# Altium footprint library Connector_Harwin.PcbLib: 102 footprints (part 2 of 7)
Each footprint in its own frame and in the unit in brackets; x right, y up, seen from the top. Pads: shape width x height; smd on the part's side, far side on the other; paste and mask are expansions set on the pad; w line width, h text height; cw(c..) or ccw(c..) is an arc to the next point about the centre after c.
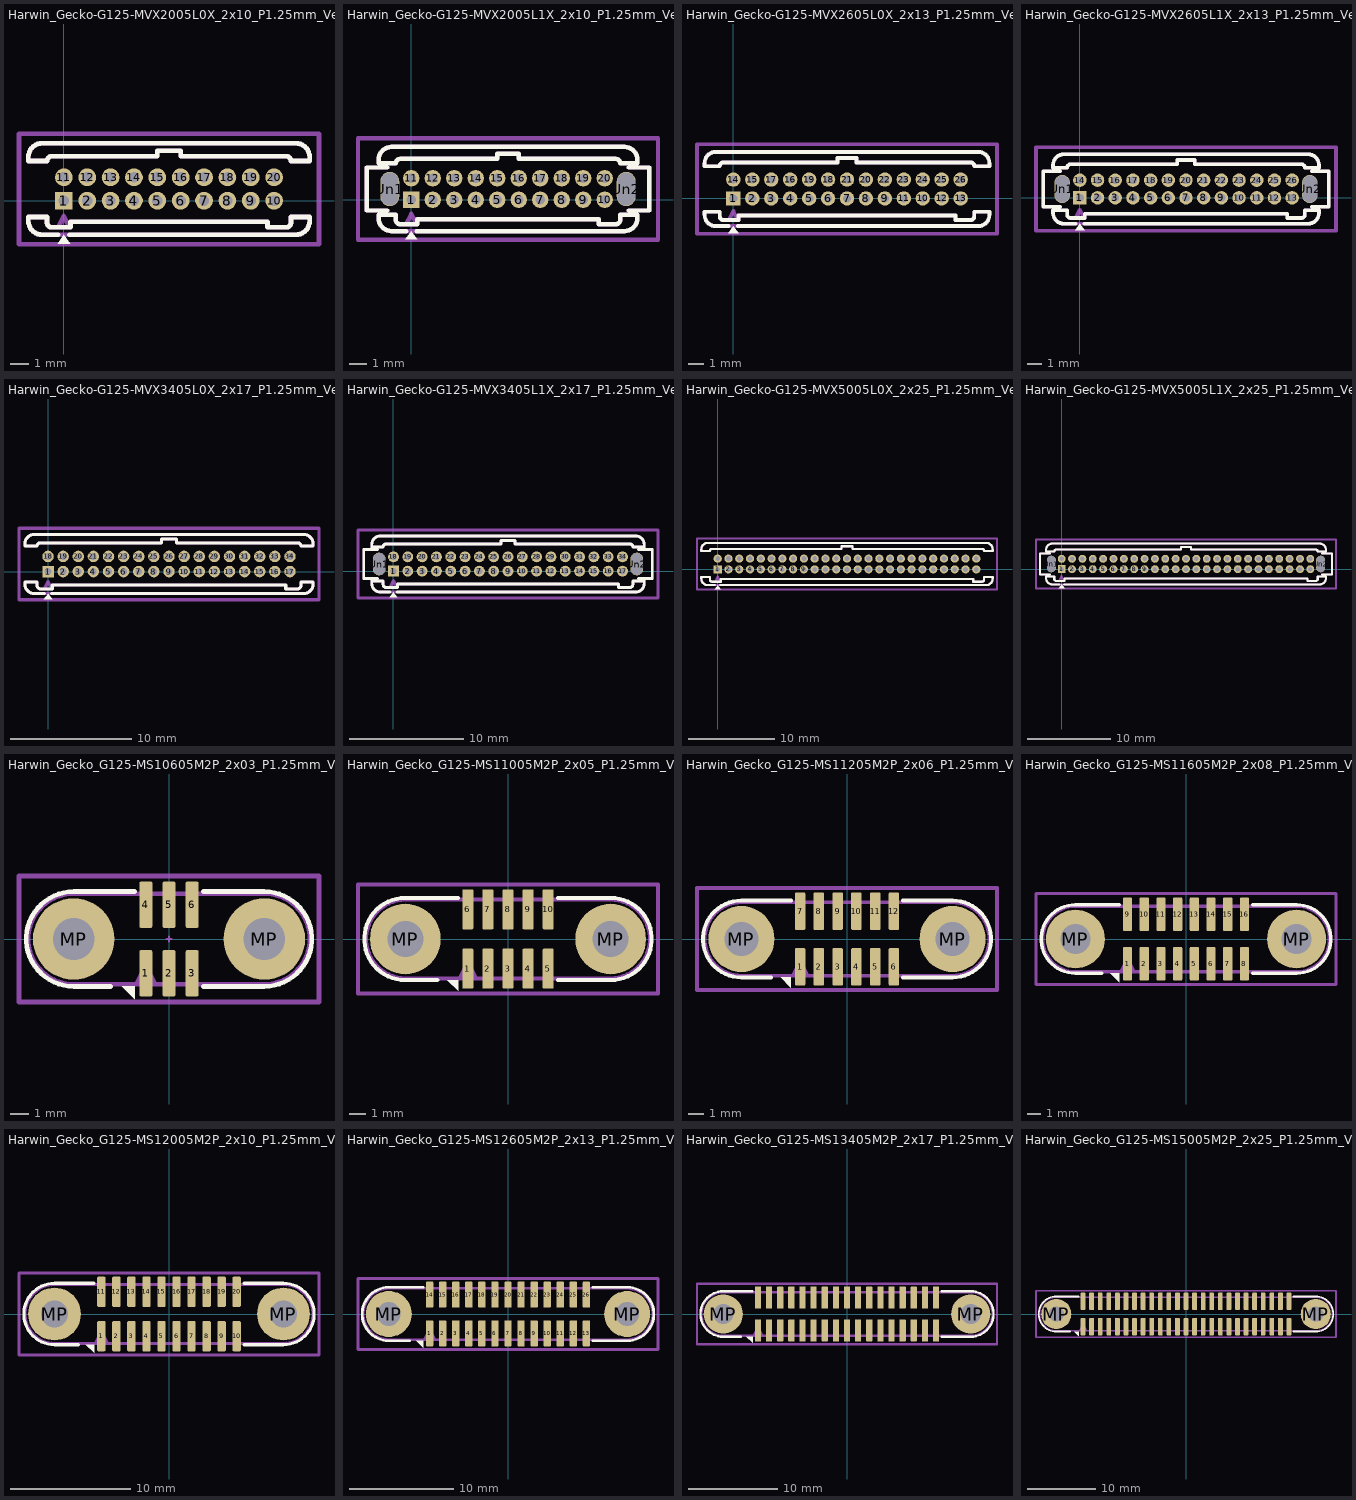
[diagram p1: the footprints below, top view; thin cyan lines are the x and y axes]

## Harwin_Gecko-G125-MVX2005L0X_2x10_P1.25mm_Vertical [mm]
pads (20):
  rect 0.95x0.95 hole 0.55: 1(0,0)
  round 0.95 hole 0.55: 2(1.25,0) 3(2.5,0) 4(3.75,0) 5(5,0) 6(6.25,0) 7(7.5,0) 8(8.75,0) 9(10,0) 10(11.25,0) 11(0,1.25) 12(1.25,1.25) 13(2.5,1.25) 14(3.75,1.25) 15(5,1.25) 16(6.25,1.25) 17(7.5,1.25) 18(8.75,1.25) 19(10,1.25) 20(11.25,1.25)
F.SilkS:
  region: 0.34,-2.3 -0.34,-2.3 0,-1.83
  lines w0.254: -0.3,-1.825 -1.15,-1.825 cw(c-1.15,-1.075) -1.9,-1.075 -1.9,-0.875 -0.9,-0.875 -0.9,-1.175 ccw(c-0.65,-1.175) -0.65,-1.425 0.35,-1.425 0.35,-1.125 10.9,-1.125 10.9,-1.425 11.9,-1.425 ccw(c11.9,-1.175) 12.15,-1.175 12.15,-0.875 13.15,-0.875 13.15,-1.075 cw(c12.4,-1.075) 12.4,-1.825 0.3,-1.825 ; -1.9,2.125 -0.9,2.125 cw(c-0.65,2.125) -0.65,2.375 5,2.375 5,2.675 6.25,2.675 6.25,2.375 11.9,2.375 cw(c11.9,2.125) 12.15,2.125 13.15,2.125 13.15,2.325 ccw(c12.4,2.325) 12.4,3.075 -1.15,3.075 ccw(c-1.15,2.325) -1.9,2.325 -1.9,2.125
Top Assembly:
  lines w0.254: -0.3,-1.425 0,-0.825 0.3,-1.425 ; -1.9,-1.075 ccw(c-1.15,-1.075) -1.15,-1.825 12.4,-1.825 ccw(c12.4,-1.075) 13.15,-1.075 13.15,-0.875 12.15,-0.875 12.15,-1.175 cw(c11.9,-1.175) 11.9,-1.425 10.9,-1.425 10.9,-1.125 0.35,-1.125 0.35,-1.425 -0.65,-1.425 cw(c-0.65,-1.175) -0.9,-1.175 -0.9,-0.875 -1.9,-0.875 -1.9,-1.075 ; -1.9,2.125 -0.9,2.125 cw(c-0.65,2.125) -0.65,2.375 5,2.375 5,2.675 6.25,2.675 6.25,2.375 11.9,2.375 cw(c11.9,2.125) 12.15,2.125 13.15,2.125 13.15,2.325 ccw(c12.4,2.325) 12.4,3.075 -1.15,3.075 ccw(c-1.15,2.325) -1.9,2.325 -1.9,2.125
  text "'.Designator'" at 1.578,-0.215 h1
Top Courtyard:
  lines w0.254: -2.4,-2.33 13.65,-2.33 13.65,3.58 -2.4,3.58 -2.4,-2.33
Top Designator:
  text ".Designator" at -1.993,0.117 h1.52

## Harwin_Gecko-G125-MVX2005L1X_2x10_P1.25mm_Vertical [mm]
pads (22):
  rect 0.95x0.95 hole 0.55: 1(0,0)
  round 0.95 hole 0.55: 2(1.25,0) 3(2.5,0) 4(3.75,0) 5(5,0) 6(6.25,0) 7(7.5,0) 8(8.75,0) 9(10,0) 10(11.25,0) 11(0,1.25) 12(1.25,1.25) 13(2.5,1.25) 14(3.75,1.25) 15(5,1.25) 16(6.25,1.25) 17(7.5,1.25) 18(8.75,1.25) 19(10,1.25) 20(11.25,1.25)
  rrect100% 1.1x2 hole 1.9 slot 1 at 0 deg: Un1(-1.25,0.625) Un2(12.5,0.625)
F.SilkS:
  region: 0.34,-2.3 -0.34,-2.3 0,-1.83
  lines w0.254: -1.4,-0.625 -2.6,-0.625 -2.6,1.875 -1.4,1.875 ; -0.3,-1.825 -1.15,-1.825 cw(c-1.15,-1.075) -1.9,-1.075 -1.9,-0.875 -0.9,-0.875 -0.9,-1.175 ccw(c-0.65,-1.175) -0.65,-1.425 0.35,-1.425 0.35,-1.125 10.9,-1.125 10.9,-1.425 11.9,-1.425 ccw(c11.9,-1.175) 12.15,-1.175 12.15,-0.875 13.15,-0.875 13.15,-1.075 cw(c12.4,-1.075) 12.4,-1.825 0.3,-1.825 ; 12.65,-0.625 13.85,-0.625 13.85,1.875 12.65,1.875 ; -1.9,2.125 -0.9,2.125 cw(c-0.65,2.125) -0.65,2.375 5,2.375 5,2.675 6.25,2.675 6.25,2.375 11.9,2.375 cw(c11.9,2.125) 12.15,2.125 13.15,2.125 13.15,2.325 ccw(c12.4,2.325) 12.4,3.075 -1.15,3.075 ccw(c-1.15,2.325) -1.9,2.325 -1.9,2.125
Top Assembly:
  lines w0.254: -1.4,-0.625 -2.6,-0.625 -2.6,1.875 -1.4,1.875 ; -0.3,-1.425 0,-0.825 0.3,-1.425 ; 12.65,-0.625 13.85,-0.625 13.85,1.875 12.65,1.875 ; -1.9,-1.075 ccw(c-1.15,-1.075) -1.15,-1.825 12.4,-1.825 ccw(c12.4,-1.075) 13.15,-1.075 13.15,-0.875 12.15,-0.875 12.15,-1.175 cw(c11.9,-1.175) 11.9,-1.425 10.9,-1.425 10.9,-1.125 0.35,-1.125 0.35,-1.425 -0.65,-1.425 cw(c-0.65,-1.175) -0.9,-1.175 -0.9,-0.875 -1.9,-0.875 -1.9,-1.075 ; -1.9,2.125 -0.9,2.125 cw(c-0.65,2.125) -0.65,2.375 5,2.375 5,2.675 6.25,2.675 6.25,2.375 11.9,2.375 cw(c11.9,2.125) 12.15,2.125 13.15,2.125 13.15,2.325 ccw(c12.4,2.325) 12.4,3.075 -1.15,3.075 ccw(c-1.15,2.325) -1.9,2.325 -1.9,2.125
  text "'.Designator'" at 1.578,-0.215 h1
Top Courtyard:
  lines w0.254: -3.1,-2.33 14.35,-2.33 14.35,3.58 -3.1,3.58 -3.1,-2.33
Top Designator:
  text ".Designator" at -1.993,0.117 h1.52

## Harwin_Gecko-G125-MVX2605L0X_2x13_P1.25mm_Vertical [mm]
pads (26):
  rect 0.95x0.95 hole 0.55: 1(0,0)
  round 0.95 hole 0.55: 2(1.25,0) 3(2.5,0) 4(3.75,0) 5(5,0) 6(6.25,0) 7(7.5,0) 8(8.75,0) 9(10,0) 10(12.5,0) 11(11.25,0) 12(13.75,0) 13(15,0) 14(0,1.25) 15(1.25,1.25) 16(3.75,1.25) 17(2.5,1.25) 18(6.25,1.25) 19(5,1.25) 20(8.75,1.25) 21(7.5,1.25) 22(10,1.25) 23(11.25,1.25) 24(12.5,1.25) 25(13.75,1.25) 26(15,1.25)
F.SilkS:
  region: 0.34,-2.3 -0.34,-2.3 0,-1.83
  lines w0.254: -0.3,-1.825 -1.15,-1.825 cw(c-1.15,-1.075) -1.9,-1.075 -1.9,-0.875 -0.9,-0.875 -0.9,-1.175 ccw(c-0.65,-1.175) -0.65,-1.425 0.35,-1.425 0.35,-1.125 14.65,-1.125 14.65,-1.425 15.65,-1.425 ccw(c15.65,-1.175) 15.9,-1.175 15.9,-0.875 16.9,-0.875 16.9,-1.075 cw(c16.15,-1.075) 16.15,-1.825 0.3,-1.825 ; -1.9,2.125 -0.9,2.125 cw(c-0.65,2.125) -0.65,2.375 6.875,2.375 6.875,2.675 8.125,2.675 8.125,2.375 15.65,2.375 cw(c15.65,2.125) 15.9,2.125 16.9,2.125 16.9,2.325 ccw(c16.15,2.325) 16.15,3.075 -1.15,3.075 ccw(c-1.15,2.325) -1.9,2.325 -1.9,2.125
Top Assembly:
  lines w0.254: -0.3,-1.425 0,-0.825 0.3,-1.425 ; -1.9,-1.075 ccw(c-1.15,-1.075) -1.15,-1.825 16.15,-1.825 ccw(c16.15,-1.075) 16.9,-1.075 16.9,-0.875 15.9,-0.875 15.9,-1.175 cw(c15.65,-1.175) 15.65,-1.425 14.65,-1.425 14.65,-1.125 0.35,-1.125 0.35,-1.425 -0.65,-1.425 cw(c-0.65,-1.175) -0.9,-1.175 -0.9,-0.875 -1.9,-0.875 -1.9,-1.075 ; -1.9,2.125 -0.9,2.125 cw(c-0.65,2.125) -0.65,2.375 6.875,2.375 6.875,2.675 8.125,2.675 8.125,2.375 15.65,2.375 cw(c15.65,2.125) 15.9,2.125 16.9,2.125 16.9,2.325 ccw(c16.15,2.325) 16.15,3.075 -1.15,3.075 ccw(c-1.15,2.325) -1.9,2.325 -1.9,2.125
  text "'.Designator'" at 3.453,-0.215 h1
Top Courtyard:
  lines w0.254: -2.4,-2.33 17.4,-2.33 17.4,3.58 -2.4,3.58 -2.4,-2.33
Top Designator:
  text ".Designator" at -0.118,0.117 h1.52

## Harwin_Gecko-G125-MVX2605L1X_2x13_P1.25mm_Vertical [mm]
pads (28):
  rect 0.95x0.95 hole 0.55: 1(0,0)
  round 0.95 hole 0.55: 2(1.25,0) 3(2.5,0) 4(3.75,0) 5(5,0) 6(6.25,0) 7(7.5,0) 8(8.75,0) 9(10,0) 10(11.25,0) 11(12.5,0) 12(13.75,0) 13(15,0) 14(0,1.25) 15(1.25,1.25) 16(2.5,1.25) 17(3.75,1.25) 18(5,1.25) 19(6.25,1.25) 20(7.5,1.25) 21(8.75,1.25) 22(10,1.25) 23(11.25,1.25) 24(12.5,1.25) 25(13.75,1.25) 26(15,1.25)
  rrect100% 1.1x2 hole 1.9 slot 1 at 0 deg: Un1(-1.25,0.625) Un2(16.25,0.625)
F.SilkS:
  region: 0.34,-2.3 -0.34,-2.3 0,-1.83
  lines w0.254: -1.4,-0.625 -2.6,-0.625 -2.6,1.875 -1.4,1.875 ; -0.3,-1.825 -1.15,-1.825 cw(c-1.15,-1.075) -1.9,-1.075 -1.9,-0.875 -0.9,-0.875 -0.9,-1.175 ccw(c-0.65,-1.175) -0.65,-1.425 0.35,-1.425 0.35,-1.125 14.65,-1.125 14.65,-1.425 15.65,-1.425 ccw(c15.65,-1.175) 15.9,-1.175 15.9,-0.875 16.9,-0.875 16.9,-1.075 cw(c16.15,-1.075) 16.15,-1.825 0.3,-1.825 ; 16.4,-0.625 17.6,-0.625 17.6,1.875 16.4,1.875 ; -1.9,2.125 -0.9,2.125 cw(c-0.65,2.125) -0.65,2.375 6.875,2.375 6.875,2.675 8.125,2.675 8.125,2.375 15.65,2.375 cw(c15.65,2.125) 15.9,2.125 16.9,2.125 16.9,2.325 ccw(c16.15,2.325) 16.15,3.075 -1.15,3.075 ccw(c-1.15,2.325) -1.9,2.325 -1.9,2.125
Top Assembly:
  lines w0.254: -1.4,-0.625 -2.6,-0.625 -2.6,1.875 -1.4,1.875 ; -0.3,-1.43 0,-0.83 0.3,-1.43 ; 16.4,-0.625 17.6,-0.625 17.6,1.875 16.4,1.875 ; -1.9,-1.075 ccw(c-1.15,-1.075) -1.15,-1.825 16.15,-1.825 ccw(c16.15,-1.075) 16.9,-1.075 16.9,-0.875 15.9,-0.875 15.9,-1.175 cw(c15.65,-1.175) 15.65,-1.425 14.65,-1.425 14.65,-1.125 0.35,-1.125 0.35,-1.425 -0.65,-1.425 cw(c-0.65,-1.175) -0.9,-1.175 -0.9,-0.875 -1.9,-0.875 -1.9,-1.075 ; -1.9,2.125 -0.9,2.125 cw(c-0.65,2.125) -0.65,2.375 6.875,2.375 6.875,2.675 8.125,2.675 8.125,2.375 15.65,2.375 cw(c15.65,2.125) 15.9,2.125 16.9,2.125 16.9,2.325 ccw(c16.15,2.325) 16.15,3.075 -1.15,3.075 ccw(c-1.15,2.325) -1.9,2.325 -1.9,2.125
  text "'.Designator'" at 3.453,-0.215 h1
Top Courtyard:
  lines w0.254: -3.1,-2.33 18.1,-2.33 18.1,3.58 -3.1,3.58 -3.1,-2.33
Top Designator:
  text ".Designator" at -0.118,0.117 h1.52

## Harwin_Gecko-G125-MVX3405L0X_2x17_P1.25mm_Vertical [mm]
pads (34):
  rect 0.95x0.95 hole 0.55: 1(0,0)
  round 0.95 hole 0.55: 2(1.25,0) 3(2.5,0) 4(3.75,0) 5(5,0) 6(6.25,0) 7(7.5,0) 8(8.75,0) 9(10,0) 10(11.25,0) 11(12.5,0) 12(13.75,0) 13(15,0) 14(16.25,0) 15(17.5,0) 16(18.75,0) 17(20,0) 18(0,1.25) 19(1.25,1.25) 20(2.5,1.25) 21(3.75,1.25) 22(5,1.25) 23(6.25,1.25) 24(7.5,1.25) 25(8.75,1.25) 26(10,1.25) 27(11.25,1.25) 28(12.5,1.25) 29(13.75,1.25) 30(15,1.25) 31(16.25,1.25) 32(17.5,1.25) 33(18.75,1.25) 34(20,1.25)
F.SilkS:
  region: 0.34,-2.3 -0.34,-2.3 0,-1.83
  lines w0.254: -0.3,-1.825 -1.15,-1.825 cw(c-1.15,-1.075) -1.9,-1.075 -1.9,-0.875 -0.9,-0.875 -0.9,-1.175 ccw(c-0.65,-1.175) -0.65,-1.425 0.35,-1.425 0.35,-1.125 19.65,-1.125 19.65,-1.425 20.65,-1.425 ccw(c20.65,-1.175) 20.9,-1.175 20.9,-0.875 21.9,-0.875 21.9,-1.075 cw(c21.15,-1.075) 21.15,-1.825 0.3,-1.825 ; -1.9,2.125 -0.9,2.125 cw(c-0.65,2.125) -0.65,2.375 9.375,2.375 9.375,2.675 10.625,2.675 10.625,2.375 20.65,2.375 cw(c20.65,2.125) 20.9,2.125 21.9,2.125 21.9,2.325 ccw(c21.15,2.325) 21.15,3.075 -1.15,3.075 ccw(c-1.15,2.325) -1.9,2.325 -1.9,2.125
Top Assembly:
  lines w0.254: -0.3,-1.425 0,-0.825 0.3,-1.425 ; -1.9,-1.075 ccw(c-1.15,-1.075) -1.15,-1.825 21.15,-1.825 ccw(c21.15,-1.075) 21.9,-1.075 21.9,-0.875 20.9,-0.875 20.9,-1.175 cw(c20.65,-1.175) 20.65,-1.425 19.65,-1.425 19.65,-1.125 0.35,-1.125 0.35,-1.425 -0.65,-1.425 cw(c-0.65,-1.175) -0.9,-1.175 -0.9,-0.875 -1.9,-0.875 -1.9,-1.075 ; -1.9,2.125 -0.9,2.125 cw(c-0.65,2.125) -0.65,2.375 9.375,2.375 9.375,2.675 10.625,2.675 10.625,2.375 20.65,2.375 cw(c20.65,2.125) 20.9,2.125 21.9,2.125 21.9,2.325 ccw(c21.15,2.325) 21.15,3.075 -1.15,3.075 ccw(c-1.15,2.325) -1.9,2.325 -1.9,2.125
  text "'.Designator'" at 5.953,-0.215 h1
Top Courtyard:
  lines w0.254: -2.4,-2.33 22.4,-2.33 22.4,3.58 -2.4,3.58 -2.4,-2.33
Top Designator:
  text ".Designator" at 2.382,0.117 h1.52

## Harwin_Gecko-G125-MVX3405L1X_2x17_P1.25mm_Vertical [mm]
pads (36):
  rect 0.95x0.95 hole 0.55: 1(0,0)
  round 0.95 hole 0.55: 2(1.25,0) 3(2.5,0) 4(3.75,0) 5(5,0) 6(6.25,0) 7(7.5,0) 8(8.75,0) 9(10,0) 10(11.25,0) 11(12.5,0) 12(13.75,0) 13(15,0) 14(16.25,0) 15(17.5,0) 16(18.75,0) 17(20,0) 18(0,1.25) 19(1.25,1.25) 20(2.5,1.25) 21(3.75,1.25) 22(5,1.25) 23(6.25,1.25) 24(7.5,1.25) 25(8.75,1.25) 26(10,1.25) 27(11.25,1.25) 28(12.5,1.25) 29(13.75,1.25) 30(15,1.25) 31(16.25,1.25) 32(17.5,1.25) 33(18.75,1.25) 34(20,1.25)
  rrect100% 1.1x2 hole 1.9 slot 1 at 0 deg: Un1(-1.25,0.625) Un2(21.25,0.625)
F.SilkS:
  region: 0.34,-2.3 -0.34,-2.3 0,-1.83
  lines w0.254: -1.4,-0.625 -2.6,-0.625 -2.6,1.875 -1.4,1.875 ; -0.3,-1.825 -1.15,-1.825 cw(c-1.15,-1.075) -1.9,-1.075 -1.9,-0.875 -0.9,-0.875 -0.9,-1.175 ccw(c-0.65,-1.175) -0.65,-1.425 0.35,-1.425 0.35,-1.125 19.65,-1.125 19.65,-1.425 20.65,-1.425 ccw(c20.65,-1.175) 20.9,-1.175 20.9,-0.875 21.9,-0.875 21.9,-1.075 cw(c21.15,-1.075) 21.15,-1.825 0.3,-1.825 ; 21.4,-0.625 22.6,-0.625 22.6,1.875 21.4,1.875 ; -1.9,2.125 -0.9,2.125 cw(c-0.65,2.125) -0.65,2.375 9.375,2.375 9.375,2.675 10.625,2.675 10.625,2.375 20.65,2.375 cw(c20.65,2.125) 20.9,2.125 21.9,2.125 21.9,2.325 ccw(c21.15,2.325) 21.15,3.075 -1.15,3.075 ccw(c-1.15,2.325) -1.9,2.325 -1.9,2.125
Top Assembly:
  lines w0.254: -1.4,-0.625 -2.6,-0.625 -2.6,1.875 -1.4,1.875 ; -0.3,-1.425 0,-0.825 0.3,-1.425 ; 21.4,-0.625 22.6,-0.625 22.6,1.875 21.4,1.875 ; -1.9,-1.075 ccw(c-1.15,-1.075) -1.15,-1.825 21.15,-1.825 ccw(c21.15,-1.075) 21.9,-1.075 21.9,-0.875 20.9,-0.875 20.9,-1.175 cw(c20.65,-1.175) 20.65,-1.425 19.65,-1.425 19.65,-1.125 0.35,-1.125 0.35,-1.425 -0.65,-1.425 cw(c-0.65,-1.175) -0.9,-1.175 -0.9,-0.875 -1.9,-0.875 -1.9,-1.075 ; -1.9,2.125 -0.9,2.125 cw(c-0.65,2.125) -0.65,2.375 9.375,2.375 9.375,2.675 10.625,2.675 10.625,2.375 20.65,2.375 cw(c20.65,2.125) 20.9,2.125 21.9,2.125 21.9,2.325 ccw(c21.15,2.325) 21.15,3.075 -1.15,3.075 ccw(c-1.15,2.325) -1.9,2.325 -1.9,2.125
  text "'.Designator'" at 5.953,-0.215 h1
Top Courtyard:
  lines w0.254: -3.1,-2.33 23.1,-2.33 23.1,3.58 -3.1,3.58 -3.1,-2.33
Top Designator:
  text ".Designator" at 2.382,0.117 h1.52

## Harwin_Gecko-G125-MVX5005L0X_2x25_P1.25mm_Vertical [mm]
pads (50):
  rect 0.95x0.95 hole 0.55: 1(0,0)
  round 0.95 hole 0.55: 2(1.25,0) 3(2.5,0) 4(3.75,0) 5(5,0) 6(6.25,0) 7(7.5,0) 8(8.75,0) 9(10,0) 10(11.25,0) 11(12.5,0) 12(13.75,0) 13(15,0) 14(16.25,0) 15(17.5,0) 16(18.75,0) 17(20,0) 18(21.25,0) 19(22.5,0) 20(23.75,0) 21(25,0) 22(26.25,0) 23(27.5,0) 24(28.75,0) 25(30,0) 26(0,1.25) 27(1.25,1.25) 28(2.5,1.25) 29(3.75,1.25) 30(5,1.25) 31(6.25,1.25) 32(8.75,1.25) 33(7.5,1.25) 34(10,1.25) 35(11.25,1.25) 36(12.5,1.25) 37(13.75,1.25) 38(15,1.25) 39(16.25,1.25) 40(17.5,1.25) 41(18.75,1.25) 42(20,1.25) 43(21.25,1.25) 44(22.5,1.25) 45(23.75,1.25) 46(25,1.25) 47(26.25,1.25) 48(27.5,1.25) 49(28.75,1.25) 50(30,1.25)
F.SilkS:
  region: 0.34,-2.3 -0.34,-2.3 0,-1.83
  lines w0.254: -0.3,-1.825 -1.15,-1.825 cw(c-1.15,-1.075) -1.9,-1.075 -1.9,-0.875 -0.9,-0.875 -0.9,-1.175 ccw(c-0.65,-1.175) -0.65,-1.425 0.35,-1.425 0.35,-1.125 29.65,-1.125 29.65,-1.425 30.65,-1.425 ccw(c30.65,-1.175) 30.9,-1.175 30.9,-0.875 31.9,-0.875 31.9,-1.075 cw(c31.15,-1.075) 31.15,-1.825 0.3,-1.825 ; -1.9,2.125 -0.9,2.125 cw(c-0.65,2.125) -0.65,2.375 14.375,2.375 14.375,2.675 15.625,2.675 15.625,2.375 30.65,2.375 cw(c30.65,2.125) 30.9,2.125 31.9,2.125 31.9,2.325 ccw(c31.15,2.325) 31.15,3.075 -1.15,3.075 ccw(c-1.15,2.325) -1.9,2.325 -1.9,2.125
Top Assembly:
  lines w0.254: -0.3,-1.425 0,-0.825 0.3,-1.425 ; -1.9,-1.075 ccw(c-1.15,-1.075) -1.15,-1.825 31.15,-1.825 ccw(c31.15,-1.075) 31.9,-1.075 31.9,-0.875 30.9,-0.875 30.9,-1.175 cw(c30.65,-1.175) 30.65,-1.425 29.65,-1.425 29.65,-1.125 0.35,-1.125 0.35,-1.425 -0.65,-1.425 cw(c-0.65,-1.175) -0.9,-1.175 -0.9,-0.875 -1.9,-0.875 -1.9,-1.075 ; -1.9,2.125 -0.9,2.125 cw(c-0.65,2.125) -0.65,2.375 14.375,2.375 14.375,2.675 15.625,2.675 15.625,2.375 30.65,2.375 cw(c30.65,2.125) 30.9,2.125 31.9,2.125 31.9,2.325 ccw(c31.15,2.325) 31.15,3.075 -1.15,3.075 ccw(c-1.15,2.325) -1.9,2.325 -1.9,2.125
  text "'.Designator'" at 10.953,-0.215 h1
Top Courtyard:
  lines w0.254: -2.4,-2.33 32.4,-2.33 32.4,3.58 -2.4,3.58 -2.4,-2.33
Top Designator:
  text ".Designator" at 7.382,0.117 h1.52

## Harwin_Gecko-G125-MVX5005L1X_2x25_P1.25mm_Vertical [mm]
pads (52):
  rect 0.95x0.95 hole 0.55: 1(0,0)
  round 0.95 hole 0.55: 2(1.25,0) 3(2.5,0) 4(3.75,0) 5(5,0) 6(6.25,0) 7(7.5,0) 8(8.75,0) 9(10,0) 10(11.25,0) 11(12.5,0) 12(13.75,0) 13(15,0) 14(16.25,0) 15(17.5,0) 16(18.75,0) 17(20,0) 18(21.25,0) 19(22.5,0) 20(23.75,0) 21(25,0) 22(26.25,0) 23(27.5,0) 24(28.75,0) 25(30,0) 26(1.25,1.25) 27(0,1.25) 28(2.5,1.25) 29(3.75,1.25) 30(5,1.25) 31(6.25,1.25) 32(7.5,1.25) 33(8.75,1.25) 34(10,1.25) 35(11.25,1.25) 36(12.5,1.25) 37(13.75,1.25) 38(15,1.25) 39(16.25,1.25) 40(17.5,1.25) 41(18.75,1.25) 42(20,1.25) 43(21.25,1.25) 44(22.5,1.25) 45(23.75,1.25) 46(25,1.25) 47(26.25,1.25) 48(27.5,1.25) 49(28.75,1.25) 50(30,1.25)
  rrect100% 1.1x2 hole 1.9 slot 1 at 0 deg: Un1(-1.25,0.625) Un2(31.25,0.625)
F.SilkS:
  region: 0.34,-2.3 -0.34,-2.3 0,-1.83
  lines w0.254: -1.4,-0.625 -2.6,-0.625 -2.6,1.875 -1.4,1.875 ; -0.3,-1.825 -1.15,-1.825 cw(c-1.15,-1.075) -1.9,-1.075 -1.9,-0.875 -0.9,-0.875 -0.9,-1.175 ccw(c-0.65,-1.175) -0.65,-1.425 0.35,-1.425 0.35,-1.125 29.65,-1.125 29.65,-1.425 30.65,-1.425 ccw(c30.65,-1.175) 30.9,-1.175 30.9,-0.875 31.9,-0.875 31.9,-1.075 cw(c31.15,-1.075) 31.15,-1.825 0.3,-1.825 ; 31.4,-0.625 32.6,-0.625 32.6,1.875 31.4,1.875 ; -1.9,2.125 -0.9,2.125 cw(c-0.65,2.125) -0.65,2.375 14.375,2.375 14.375,2.675 15.625,2.675 15.625,2.375 30.65,2.375 cw(c30.65,2.125) 30.9,2.125 31.9,2.125 31.9,2.325 ccw(c31.15,2.325) 31.15,3.075 -1.15,3.075 ccw(c-1.15,2.325) -1.9,2.325 -1.9,2.125
Top Assembly:
  lines w0.254: -1.4,-0.625 -2.6,-0.625 -2.6,1.875 -1.4,1.875 ; -0.3,-1.425 0,-0.825 0.3,-1.425 ; 31.4,-0.625 32.6,-0.625 32.6,1.875 31.4,1.875 ; -1.9,-1.075 ccw(c-1.15,-1.075) -1.15,-1.825 31.15,-1.825 ccw(c31.15,-1.075) 31.9,-1.075 31.9,-0.875 30.9,-0.875 30.9,-1.175 cw(c30.65,-1.175) 30.65,-1.425 29.65,-1.425 29.65,-1.125 0.35,-1.125 0.35,-1.425 -0.65,-1.425 cw(c-0.65,-1.175) -0.9,-1.175 -0.9,-0.875 -1.9,-0.875 -1.9,-1.075 ; -1.9,2.125 -0.9,2.125 cw(c-0.65,2.125) -0.65,2.375 14.375,2.375 14.375,2.675 15.625,2.675 15.625,2.375 30.65,2.375 cw(c30.65,2.125) 30.9,2.125 31.9,2.125 31.9,2.325 ccw(c31.15,2.325) 31.15,3.075 -1.15,3.075 ccw(c-1.15,2.325) -1.9,2.325 -1.9,2.125
  text "'.Designator'" at 10.953,-0.215 h1
Top Courtyard:
  lines w0.254: -3.1,-2.33 33.1,-2.33 33.1,3.58 -3.1,3.58 -3.1,-2.33
Top Designator:
  text ".Designator" at 7.382,0.117 h1.52

## Harwin_Gecko_G125-MS10605M2P_2x03_P1.25mm_Vertical [mm]
pads (8):
  rrect25% 0.7x2.5 smd: 1(-1.25,-1.85) 2(0,-1.85) 3(1.25,-1.85) 4(-1.25,1.85) 5(0,1.85) 6(1.25,1.85)
  round 4.4 hole 2.25: MP(-5.15,0) MP(5.15,0)
F.SilkS:
  region: -1.86,-3.24 -2.54,-2.56 -1.86,-2.56
  lines w0.254: -3.16,-2.56 -5.15,-2.56 cw(c-5.15,0) -5.15,2.56 -1.86,2.56 ; 1.86,-2.56 5.15,-2.56 ccw(c5.15,0) 5.15,2.56 1.86,2.56
Top Component Center:
  lines w0.127: -0.127,0 0.127,0 ; 0,-0.127 0,0.127
Top Assembly:
  lines w0.254: -1.75,-2.45 -1.25,-1.45 -0.75,-2.45 ; -5.15,-2.45 cw(c-5.15,0) -5.15,2.45 5.15,2.45 cw(c5.15,0) 5.15,-2.45 -5.15,-2.45
  text "'.Designator'" at -4.047,-0.84 h1
Top Courtyard:
  lines w0.254: -8.1,-3.4 8.1,-3.4 8.1,3.4 -8.1,3.4 -8.1,-3.4
Top Designator:
  text ".Designator" at -7.618,-0.508 h1.52

## Harwin_Gecko_G125-MS11005M2P_2x05_P1.25mm_Vertical [mm]
pads (12):
  rrect25% 0.7x2.5 smd: 1(-2.5,-1.85) 2(-1.25,-1.85) 3(0,-1.85) 4(1.25,-1.85) 5(2.5,-1.85) 6(-2.5,1.85) 7(-1.25,1.85) 8(0,1.85) 9(1.25,1.85) 10(2.5,1.85)
  round 4.4 hole 2.25: MP(-6.4,0) MP(6.4,0)
F.SilkS:
  region: -3.11,-3.24 -3.79,-2.56 -3.11,-2.56
  lines w0.254: -4.41,-2.56 -6.4,-2.56 cw(c-6.4,0) -6.4,2.56 -3.11,2.56 ; 3.11,-2.56 6.4,-2.56 ccw(c6.4,0) 6.4,2.56 3.11,2.56
Top Assembly:
  lines w0.254: -3,-2.45 -2.5,-1.45 -2,-2.45 ; -6.4,-2.45 cw(c-6.4,0) -6.4,2.45 6.4,2.45 cw(c6.4,0) 6.4,-2.45 -6.4,-2.45
  text "'.Designator'" at -4.047,-0.84 h1
Top Courtyard:
  lines w0.254: -9.35,-3.4 9.35,-3.4 9.35,3.4 -9.35,3.4 -9.35,-3.4
Top Designator:
  text ".Designator" at -7.618,-0.508 h1.52

## Harwin_Gecko_G125-MS11205M2P_2x06_P1.25mm_Vertical [mm]
pads (14):
  rrect25% 0.7x2.5 smd: 1(-3.125,-1.85) 2(-1.875,-1.85) 3(-0.625,-1.85) 4(0.625,-1.85) 5(1.875,-1.85) 6(3.125,-1.85) 7(-3.125,1.85) 8(-1.875,1.85) 9(-0.625,1.85) 10(0.625,1.85) 11(1.875,1.85) 12(3.125,1.85)
  round 4.4 hole 2.25: MP(-7.025,0) MP(7.025,0)
F.SilkS:
  region: -3.735,-3.24 -4.415,-2.56 -3.735,-2.56
  lines w0.254: -5.035,-2.56 -7.025,-2.56 cw(c-7.025,0) -7.025,2.56 -3.735,2.56 ; 3.735,-2.56 7.025,-2.56 ccw(c7.025,0) 7.025,2.56 3.735,2.56
Top Assembly:
  lines w0.254: -3.625,-2.45 -3.125,-1.45 -2.625,-2.45 ; -7.025,-2.45 cw(c-7.025,0) -7.025,2.45 7.025,2.45 cw(c7.025,0) 7.025,-2.45 -7.025,-2.45
  text "'.Designator'" at -4.047,-0.84 h1
Top Courtyard:
  lines w0.254: -9.98,-3.4 9.98,-3.4 9.98,3.4 -9.98,3.4 -9.98,-3.4
Top Designator:
  text ".Designator" at -7.618,-0.508 h1.52

## Harwin_Gecko_G125-MS11605M2P_2x08_P1.25mm_Vertical [mm]
pads (18):
  rrect25% 0.7x2.5 smd: 1(-4.375,-1.85) 2(-3.125,-1.85) 3(-1.875,-1.85) 4(-0.625,-1.85) 5(0.625,-1.85) 6(1.875,-1.85) 7(3.125,-1.85) 8(4.375,-1.85) 9(-4.375,1.85) 10(-3.125,1.85) 11(-1.875,1.85) 12(-0.625,1.85) 13(0.625,1.85) 14(1.875,1.85) 15(3.125,1.85) 16(4.375,1.85)
  round 4.4 hole 2.25: MP(-8.275,0) MP(8.275,0)
F.SilkS:
  region: -4.985,-3.24 -5.665,-2.56 -4.985,-2.56
  lines w0.254: -6.285,-2.56 -8.275,-2.56 cw(c-8.275,0) -8.275,2.56 -4.985,2.56 ; 4.985,-2.56 8.275,-2.56 ccw(c8.275,0) 8.275,2.56 4.985,2.56
Top Assembly:
  lines w0.254: -4.875,-2.45 -4.375,-1.45 -3.875,-2.45 ; -8.275,-2.45 cw(c-8.275,0) -8.275,2.45 8.275,2.45 cw(c8.275,0) 8.275,-2.45 -8.275,-2.45
  text "'.Designator'" at -4.047,-0.84 h1
Top Courtyard:
  lines w0.254: -11.22,-3.4 11.22,-3.4 11.22,3.4 -11.22,3.4 -11.22,-3.4
Top Designator:
  text ".Designator" at -7.618,-0.508 h1.52

## Harwin_Gecko_G125-MS12005M2P_2x10_P1.25mm_Vertical [mm]
pads (22):
  rrect25% 0.7x2.5 smd: 1(-5.625,-1.85) 2(-4.375,-1.85) 3(-3.125,-1.85) 4(-1.875,-1.85) 5(-0.625,-1.85) 6(0.625,-1.85) 7(1.875,-1.85) 8(3.125,-1.85) 9(4.375,-1.85) 10(5.625,-1.85) 11(-5.625,1.85) 12(-4.375,1.85) 13(-3.125,1.85) 14(-1.875,1.85) 15(-0.625,1.85) 16(0.625,1.85) 17(1.875,1.85) 18(3.125,1.85) 19(4.375,1.85) 20(5.625,1.85)
  round 4.4 hole 2.25: MP(-9.525,0) MP(9.525,0)
F.SilkS:
  region: -6.235,-3.24 -6.915,-2.56 -6.235,-2.56
  lines w0.254: -7.535,-2.56 -9.525,-2.56 cw(c-9.525,0) -9.525,2.56 -6.235,2.56 ; 6.235,-2.56 9.525,-2.56 ccw(c9.525,0) 9.525,2.56 6.235,2.56
Top Assembly:
  lines w0.254: -6.125,-2.45 -5.625,-1.45 -5.125,-2.45 ; -9.525,-2.45 cw(c-9.525,0) -9.525,2.45 9.525,2.45 cw(c9.525,0) 9.525,-2.45 -9.525,-2.45
  text "'.Designator'" at -4.047,-0.84 h1
Top Courtyard:
  lines w0.254: -12.48,-3.4 12.48,-3.4 12.48,3.4 -12.48,3.4 -12.48,-3.4
Top Designator:
  text ".Designator" at -7.618,-0.508 h1.52

## Harwin_Gecko_G125-MS12605M2P_2x13_P1.25mm_Vertical [mm]
pads (28):
  rrect25% 0.7x2.5 smd: 1(-7.5,-1.85) 2(-6.25,-1.85) 3(-5,-1.85) 4(-3.75,-1.85) 5(-2.5,-1.85) 6(-1.25,-1.85) 7(0,-1.85) 8(1.25,-1.85) 9(2.5,-1.85) 10(3.75,-1.85) 11(5,-1.85) 12(6.25,-1.85) 13(7.5,-1.85) 14(-7.5,1.85) 15(-6.25,1.85) 16(-5,1.85) 17(-3.75,1.85) 18(-2.5,1.85) 19(-1.25,1.85) 20(0,1.85) 21(1.25,1.85) 22(2.5,1.85) 23(3.75,1.85) 24(5,1.85) 25(6.25,1.85) 26(7.5,1.85)
  round 4.4 hole 2.25: MP(-11.4,0) MP(11.4,0)
F.SilkS:
  region: -8.11,-3.24 -8.79,-2.56 -8.11,-2.56
  lines w0.254: -9.41,-2.56 -11.4,-2.56 cw(c-11.4,0) -11.4,2.56 -8.11,2.56 ; 8.11,-2.56 11.4,-2.56 ccw(c11.4,0) 11.4,2.56 8.11,2.56
Top Assembly:
  lines w0.254: -8,-2.45 -7.5,-1.45 -7,-2.45 ; -11.4,-2.45 cw(c-11.4,0) -11.4,2.45 11.4,2.45 cw(c11.4,0) 11.4,-2.45 -11.4,-2.45
  text "'.Designator'" at -4.047,-0.84 h1
Top Courtyard:
  lines w0.254: -14.35,-3.4 14.35,-3.4 14.35,3.4 -14.35,3.4 -14.35,-3.4
Top Designator:
  text ".Designator" at -7.618,-0.508 h1.52

## Harwin_Gecko_G125-MS13405M2P_2x17_P1.25mm_Vertical [mm]
pads (36):
  rrect25% 0.7x2.5 smd: 1(-10,-1.85) 2(-8.75,-1.85) 3(-7.5,-1.85) 4(-6.25,-1.85) 5(-5,-1.85) 6(-3.75,-1.85) 7(-2.5,-1.85) 8(-1.25,-1.85) 9(0,-1.85) 10(1.25,-1.85) 11(2.5,-1.85) 12(3.75,-1.85) 13(5,-1.85) 14(6.25,-1.85) 15(7.5,-1.85) 16(8.75,-1.85) 17(10,-1.85) 18(-10,1.85) 19(-8.75,1.85) 20(-7.5,1.85) 21(-6.25,1.85) 22(-5,1.85) 23(-3.75,1.85) 24(-2.5,1.85) 25(-1.25,1.85) 26(0,1.85) 27(1.25,1.85) 28(2.5,1.85) 29(3.75,1.85) 30(5,1.85) 31(6.25,1.85) 32(7.5,1.85) 33(8.75,1.85) 34(10,1.85)
  round 4.4 hole 2.25: MP(-13.9,0) MP(13.9,0)
F.SilkS:
  region: -10.61,-3.24 -11.29,-2.56 -10.61,-2.56
  lines w0.254: -11.91,-2.56 -13.9,-2.56 cw(c-13.9,0) -13.9,2.56 -10.61,2.56 ; 10.61,-2.56 13.9,-2.56 ccw(c13.9,0) 13.9,2.56 10.61,2.56
Top Assembly:
  lines w0.254: -10.5,-2.45 -10,-1.45 -9.5,-2.45 ; -13.9,-2.45 cw(c-13.9,0) -13.9,2.45 13.9,2.45 cw(c13.9,0) 13.9,-2.45 -13.9,-2.45
  text "'.Designator'" at -4.047,-0.84 h1
Top Courtyard:
  lines w0.254: -16.85,-3.4 16.85,-3.4 16.85,3.4 -16.85,3.4 -16.85,-3.4
Top Designator:
  text ".Designator" at -7.618,-0.508 h1.52

## Harwin_Gecko_G125-MS15005M2P_2x25_P1.25mm_Vertical [mm]
pads (52):
  rrect25% 0.7x2.5 smd: 1(-15,-1.85) 2(-13.75,-1.85) 3(-12.5,-1.85) 4(-11.25,-1.85) 5(-10,-1.85) 6(-8.75,-1.85) 7(-7.5,-1.85) 8(-6.25,-1.85) 9(-5,-1.85) 10(-3.75,-1.85) 11(-2.5,-1.85) 12(-1.25,-1.85) 13(0,-1.85) 14(1.25,-1.85) 15(2.5,-1.85) 16(3.75,-1.85) 17(5,-1.85) 18(6.25,-1.85) 19(7.5,-1.85) 20(8.75,-1.85) 21(10,-1.85) 22(11.25,-1.85) 23(12.5,-1.85) 24(13.75,-1.85) 25(15,-1.85) 26(-15,1.85) 27(-13.75,1.85) 28(-12.5,1.85) 29(-11.25,1.85) 30(-10,1.85) 31(-8.75,1.85) 32(-7.5,1.85) 33(-6.25,1.85) 34(-5,1.85) 35(-3.75,1.85) 36(-2.5,1.85) 37(-1.25,1.85) 38(0,1.85) 39(1.25,1.85) 40(2.5,1.85) 41(3.75,1.85) 42(5,1.85) 43(6.25,1.85) 44(7.5,1.85) 45(8.75,1.85) 46(10,1.85) 47(11.25,1.85) 48(12.5,1.85) 49(13.75,1.85) 50(15,1.85)
  round 4.4 hole 2.25: MP(-18.9,0) MP(18.9,0)
F.SilkS:
  region: -15.61,-3.24 -16.29,-2.56 -15.61,-2.56
  lines w0.254: -16.91,-2.56 -18.9,-2.56 cw(c-18.9,0) -18.9,2.56 -15.61,2.56 ; 15.61,-2.56 18.9,-2.56 ccw(c18.9,0) 18.9,2.56 15.61,2.56
Top Assembly:
  lines w0.254: -15.5,-2.45 -15,-1.45 -14.5,-2.45 ; -18.9,-2.45 cw(c-18.9,0) -18.9,2.45 18.9,2.45 cw(c18.9,0) 18.9,-2.45 -18.9,-2.45
  text "'.Designator'" at -4.047,-0.84 h1
Top Courtyard:
  lines w0.254: -21.85,-3.4 21.85,-3.4 21.85,3.4 -21.85,3.4 -21.85,-3.4
Top Designator:
  text ".Designator" at -7.618,-0.508 h1.52